# Altium schematic symbol library Led RG.Schlib: 1 symbol
Pins are listed as number, name and electrical type; pins without a type are passive.

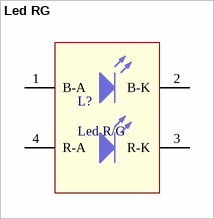
[diagram p0: symbol Led RG]

## Led RG
designator L?, comment Led R/G
Bi-colour LED
pins: 1 B-A, 2 B-K, 3 R-K, 4 R-A